# Altium footprint library SOP.PcbLib: 6 footprints
Each footprint in its own frame and in the unit in brackets; x right, y up, seen from the top. Pads: shape width x height; smd on the part's side, far side on the other; paste and mask are expansions set on the pad; w line width, h text height; cw(c..) or ccw(c..) is an arc to the next point about the centre after c.
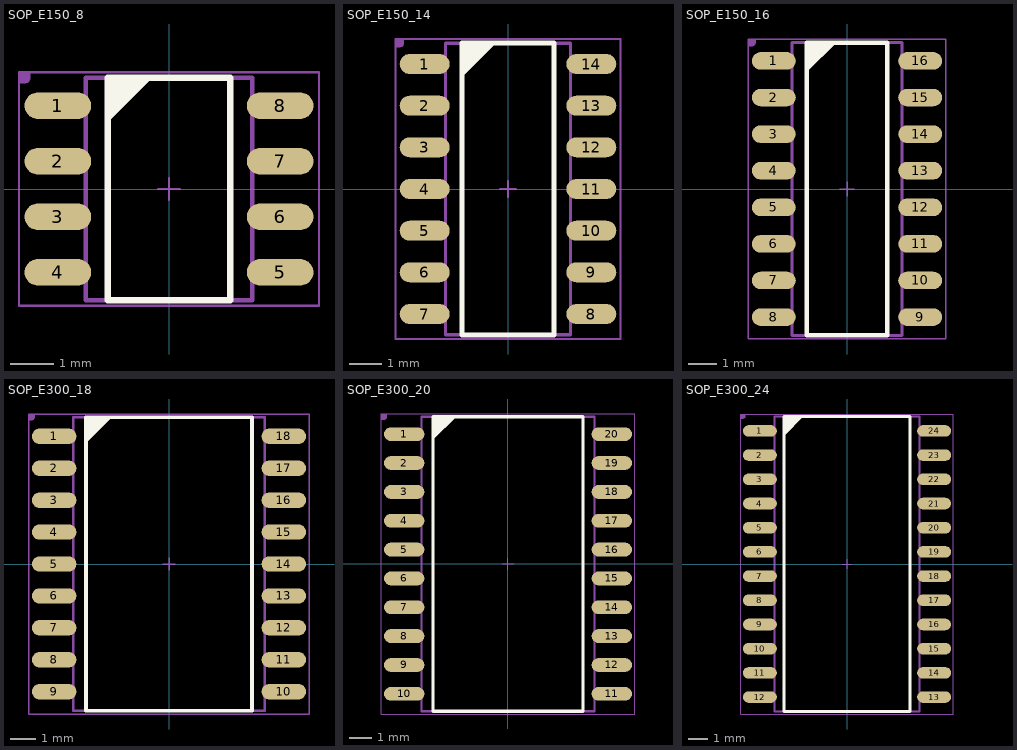
[diagram p0: the footprints below, top view; thin cyan lines are the x and y axes]

## SOP_E150_8 [mil]
height 68.9
pads (8):
  oval 60x24 smd: 1(-100,75) 2(-100,25) 3(-100,-25) 4(-100,-75) 5(100,-75) 6(100,-25) 7(100,25) 8(100,75)
Top Overlay:
  region: -55,100 -15,100 -55,60
  lines w6: -55,-100 -55,100 55,100 55,-100 -55,-100
Mechanical 13:
  lines w2: -10,0 10,0 ; 0,-10 0,10
  lines w4: -75,-100 75,-100 75,100 -75,100 -75,-100
Mechanical 14:
  region: -135,105 -125,105 -125,100 -125,99.01 -125.76,97.17 -127.17,95.76 -129.01,95 -130,95 -135,95
  lines w2: -135,-105 -135,105 135,105 135,-105 -135,-105
  text ".Designator" at -41,-25 h100
3D body "User Library-SOIC-8-1.STEP": height 68.9, standoff 0, extent -118.1,-96.46 118.12,96.46

## SOP_E150_14 [mil]
height 68.9
pads (14):
  oval 60x24 smd: 1(-100,150) 2(-100,100) 3(-100,50) 4(-100,0) 5(-100,-50) 6(-100,-100) 7(-100,-150) 8(100,-150) 9(100,-100) 10(100,-50) 11(100,0) 12(100,50) 13(100,100) 14(100,150)
Top Overlay:
  region: -55,175 -15,175 -55,135
  lines w6: -55,-175 55,-175 55,175 -55,175 -55,-175
Mechanical 13:
  lines w2: -10,0 10,0 ; 0,-10 0,10
  lines w4: -75,-175 -75,175 75,175 75,-175 -75,-175
Mechanical 14:
  region: -135,180 -125,180 -125,175 -125,174.01 -125.76,172.17 -127.17,170.76 -129.01,170 -130,170 -135,170
  lines w2: -135,-180 135,-180 135,180 -135,180 -135,-180
  text ".Designator" at -41,-25 h100
3D body "User Library-SOIC-14.STEP": height 68.9, standoff 0, extent -118.1,-172.24 118.11,172.25

## SOP_E150_16 [mil]
height 68.9
pads (16):
  oval 60x24 smd: 1(-100,175) 2(-100,125) 3(-100,75) 4(-100,25) 5(-100,-25) 6(-100,-75) 7(-100,-125) 8(-100,-175) 9(100,-175) 10(100,-125) 11(100,-75) 12(100,-25) 13(100,25) 14(100,75) 15(100,125) 16(100,175)
Top Overlay:
  region: -55,200 -15,200 -55,160
  lines w6: -55,-200 55,-200 55,200 -55,200 -55,-200
Mechanical 13:
  lines w2: -10,0 10,0 ; 0,-10 0,10
  lines w4: -75,-200 -75,200 75,200 75,-200 -75,-200
Mechanical 14:
  region: -135,205 -125,205 -125,200 -125,199.01 -125.76,197.17 -127.17,195.76 -129.01,195 -130,195 -135,195
  lines w2: -135,-205 135,-205 135,205 -135,205 -135,-205
  text ".Designator" at -41,-25 h100
3D body "User Library-SOIC-16-2.STEP": height 68.9, standoff 0, extent -118.1,-196.85 118.11,196.85

## SOP_E300_18 [mil]
height 104.33
pads (18):
  oval 70x24 smd: 1(-180,200) 2(-180,150) 3(-180,100) 4(-180,50) 5(-180,0) 6(-180,-50) 7(-180,-100) 8(-180,-150) 9(-180,-200) 10(180,-200) 11(180,-150) 12(180,-100) 13(180,-50) 14(180,0) 15(180,50) 16(180,100) 17(180,150) 18(180,200)
Top Overlay:
  region: -130,230 -90,230 -130,190
  lines w6: -130,-230 -130,230 130,230 130,-230 -130,-230
Mechanical 13:
  lines w2: -10,0 10,0 ; 0,-10 0,10
  lines w4: -150,-230 -150,230 150,230 150,-230 -150,-230
Mechanical 14:
  region: -220,235 -210,235 -210,230 -210,229.01 -210.76,227.17 -212.17,225.76 -214.01,225 -215,225 -220,225
  lines w2: -220,-235 220,-235 220,235 -220,235 -220,-235
  text ".Designator" at -41,-25 h100
3D body "User Library-SOIC-18-300.STEP": height 101.26, standoff -1.1, extent -208.66,-231.29 208.66,231.31

## SOP_E300_20 [mil]
height 104.33
pads (20):
  oval 70x24 smd: 1(-180,225) 2(-180,175) 3(-180,125) 4(-180,75) 5(-180,25) 6(-180,-25) 7(-180,-75) 8(-180,-125) 9(-180,-175) 10(-180,-225) 11(180,-225) 12(180,-175) 13(180,-125) 14(180,-75) 15(180,-25) 16(180,25) 17(180,75) 18(180,125) 19(180,175) 20(180,225)
Top Overlay:
  region: -130,255 -90,255 -130,215
  lines w6: -130,-255 -130,255 130,255 130,-255 -130,-255
Mechanical 13:
  lines w2: -10,0 10,0 ; 0,-10 0,10
  lines w4: -150,-255 -150,255 150,255 150,-255 -150,-255
Mechanical 14:
  region: -220,260 -210,260 -210,255 -210,254.01 -210.76,252.17 -212.17,250.76 -214.01,250 -215,250 -220,250
  lines w2: -220,-260 220,-260 220,260 -220,260 -220,-260
  text ".Designator" at -41,-25 h100
3D body "User Library-SOIC-20-300.STEP": height 101.26, standoff -1.1, extent -208.66,-255.9 208.66,255.91

## SOP_E300_24 [mil]
height 104.33
pads (24):
  oval 70x24 smd: 1(-180,275) 2(-180,225) 3(-180,175) 4(-180,125) 5(-180,75) 6(-180,25) 7(-180,-25) 8(-180,-75) 9(-180,-125) 10(-180,-175) 11(-180,-225) 12(-180,-275) 13(180,-275) 14(180,-225) 15(180,-175) 16(180,-125) 17(180,-75) 18(180,-25) 19(180,25) 20(180,75) 21(180,125) 22(180,175) 23(180,225) 24(180,275)
Top Overlay:
  region: -130,305 -90,305 -130,265
  lines w6: -130,-305 130,-305 130,305 -130,305 -130,-305
Mechanical 13:
  lines w2: -10,0 10,0 ; 0,-10 0,10
  lines w4: -150,-305 150,-305 150,305 -150,305 -150,-305
Mechanical 14:
  region: -220,310 -210,310 -210,305 -210,304.01 -210.76,302.17 -212.17,300.76 -214.01,300 -215,300 -220,300
  lines w2: -220,-310 220,-310 220,310 -220,310 -220,-310
  text ".Designator" at -41,-25 h100
3D body "User Library-SOIC_24.STEP": height 102.36, standoff 0, extent -204.72,-308.46 204.73,297.84